# EAGLE library part PTR5528 (library X893)
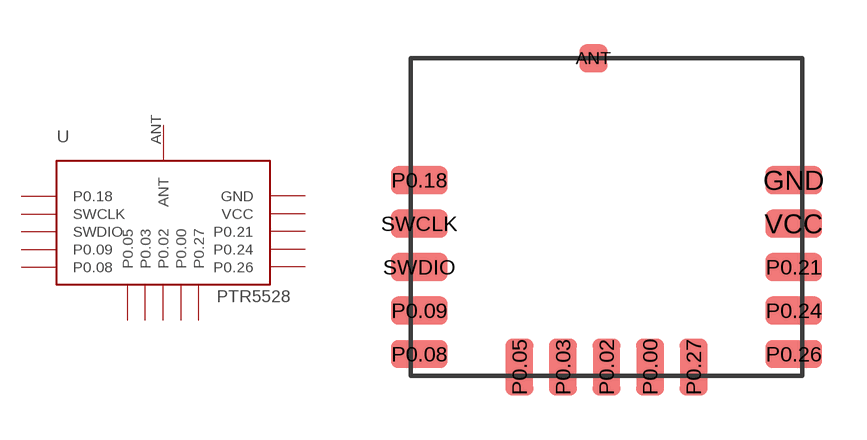
[diagram p225: symbol with the pads of PTR5528; footprint PTR5528]

Designator prefix U

## PTR5528  [PTR5528]
ANT  ANT
GND  GND  pwr
P0.00  P0.00
P0.02  P0.02
P0.03  P0.03
P0.05  P0.05
P0.08  P0.08
P0.09  P0.09
P0.18  P0.18
P0.21  P0.21
P0.24  P0.24
P0.26  P0.26
P0.27  P0.27
SWCLK  SWCLK
SWDIO  SWDIO
VCC  VCC  pwr

## Footprint PTR5528 (pad centres in mm)
smd 0.813 x 0.813: ANT -0.381,4.699
smd 1.651 x 0.813: GND 5.461,1.143; P0.08 -5.461,-3.937; P0.09 -5.461,-2.667; P0.18 -5.461,1.143; P0.21 5.461,-1.397; P0.24 5.461,-2.667; P0.26 5.461,-3.937; SWCLK -5.461,-0.127; SWDIO -5.461,-1.397; VCC 5.461,-0.127
smd 0.813 x 1.651: P0.00 1.27,-4.318; P0.02 0,-4.318; P0.03 -1.27,-4.318; P0.05 -2.54,-4.318; P0.27 2.54,-4.318